# Altium schematic symbol library buffer_digital_isolator.SchLib: 34 symbols
Pins are listed as number, name and electrical type; pins without a type are passive.

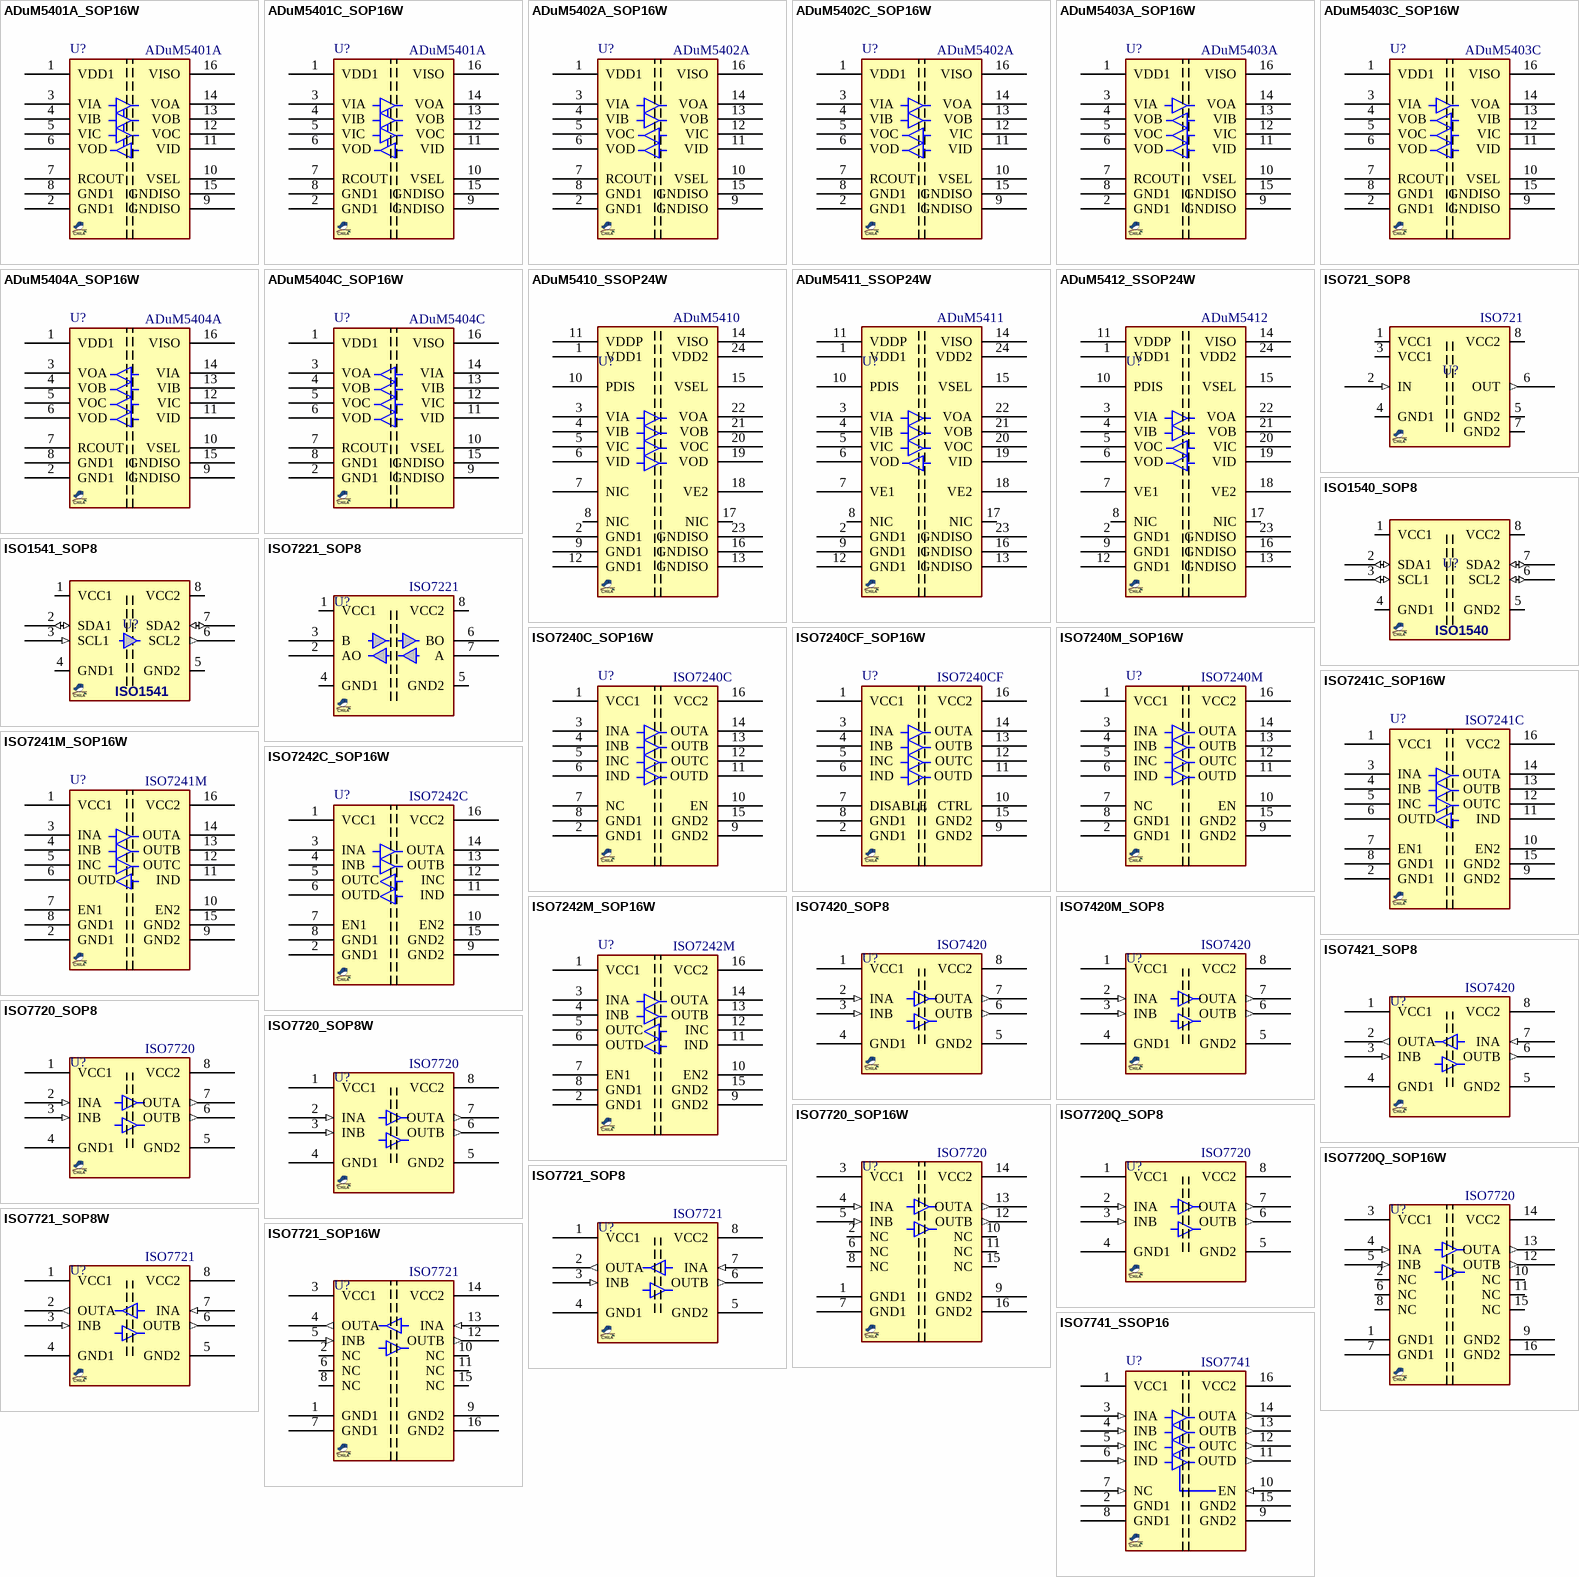
[diagram p0: symbols ADuM5401A_SOP16W to ISO7741_SSOP16]

## ADuM5401A_SOP16W
designator U?, comment ADuM5401A
Isolator, Quad, Integrated DC2DC 500mW; MANF: Analog Device; MANF_P#: ADuM5401ARWZ; PARAM2: 3~5.5Vcc, 500mW, 40ns PWDist; PARAM: 1Mbps, 100ns Tpd, -40~105°C; PRICE: 12$; VALUE: ADuM5401A
footprint SO_16_W (SOP, SOIC, 7.5mm width, 1.27mm pitch,)
pins: 1 VDD1 (power), 2 GND1, 3 VIA, 4 VIB, 5 VIC, 6 VOD, 7 RCOUT, 8 GND1, 9 GNDISO, 10 VSEL, 11 VID, 12 VOC, 13 VOB, 14 VOA, 15 GNDISO, 16 VISO

## ADuM5401C_SOP16W
designator U?, comment ADuM5401A
Isolator, Quad, Integrated DC2DC 500mW; MANF: Analog Device; MANF_P#: ADuM5401CRWZ; PARAM2: 3~5.5Vcc, 500mW, 6ns PWDist; PARAM: 25Mbps, 60ns Tpd, -40~105°C; PRICE: 12$; VALUE: ADuM5401A
footprint SO_16_W (SOP, SOIC, 7.5mm width, 1.27mm pitch,)
pins: 1 VDD1 (power), 2 GND1, 3 VIA, 4 VIB, 5 VIC, 6 VOD, 7 RCOUT, 8 GND1, 9 GNDISO, 10 VSEL, 11 VID, 12 VOC, 13 VOB, 14 VOA, 15 GNDISO, 16 VISO

## ADuM5402A_SOP16W
designator U?, comment ADuM5402A
Isolator, Quad, Integrated DC2DC 500mW; MANF: Analog Device; MANF_P#: ADuM5402ARWZ; PARAM2: 3~5.5Vcc, 500mW, 40ns PWDist; PARAM: 1Mbps, 100ns Tpd, -40~105°C; PRICE: 12$; VALUE: ADuM5402A
footprint SO_16_W (SOP, SOIC, 7.5mm width, 1.27mm pitch,)
pins: 1 VDD1 (power), 2 GND1, 3 VIA, 4 VIB, 5 VOC, 6 VOD, 7 RCOUT, 8 GND1, 9 GNDISO, 10 VSEL, 11 VID, 12 VIC, 13 VOB, 14 VOA, 15 GNDISO, 16 VISO

## ADuM5402C_SOP16W
designator U?, comment ADuM5402A
Isolator, Quad, Integrated DC2DC 500mW; MANF: Analog Device; MANF_P#: ADuM5402CRWZ; PARAM2: 3~5.5Vcc, 500mW, 6ns PWDist; PARAM: 25Mbps, 60ns Tpd, -40~105°C; PRICE: 12$; VALUE: ADuM5402A
footprint SO_16_W (SOP, SOIC, 7.5mm width, 1.27mm pitch,)
pins: 1 VDD1 (power), 2 GND1, 3 VIA, 4 VIB, 5 VOC, 6 VOD, 7 RCOUT, 8 GND1, 9 GNDISO, 10 VSEL, 11 VID, 12 VIC, 13 VOB, 14 VOA, 15 GNDISO, 16 VISO

## ADuM5403A_SOP16W
designator U?, comment ADuM5403A
Isolator, Quad, Integrated DC2DC 500mW; MANF: Analog Device; MANF_P#: ADuM5403ARWZ; PARAM2: 3~5.5Vcc, 500mW, 40ns PWDist; PARAM: 1Mbps, 100ns Tpd, -40~105°C; PRICE: 12$; VALUE: ADuM5403A
footprint SO_16_W (SOP, SOIC, 7.5mm width, 1.27mm pitch,)
pins: 1 VDD1 (power), 2 GND1, 3 VIA, 4 VOB, 5 VOC, 6 VOD, 7 RCOUT, 8 GND1, 9 GNDISO, 10 VSEL, 11 VID, 12 VIC, 13 VIB, 14 VOA, 15 GNDISO, 16 VISO

## ADuM5403C_SOP16W
designator U?, comment ADuM5403C
Isolator, Quad, Integrated DC2DC 500mW; MANF: Analog Device; MANF_P#: ADuM5403CRWZ; PARAM2: 3~5.5Vcc, 500mW, 6ns PWDist; PARAM: 25Mbps, 60ns Tpd, -40~105°C; PRICE: 12$; VALUE: ADuM5403C
footprint SO_16_W (SOP, SOIC, 7.5mm width, 1.27mm pitch,)
pins: 1 VDD1 (power), 2 GND1, 3 VIA, 4 VOB, 5 VOC, 6 VOD, 7 RCOUT, 8 GND1, 9 GNDISO, 10 VSEL, 11 VID, 12 VIC, 13 VIB, 14 VOA, 15 GNDISO, 16 VISO

## ADuM5404A_SOP16W
designator U?, comment ADuM5404A
Isolator, Quad, Integrated DC2DC 500mW; MANF: Analog Device; MANF_P#: ADuM5404ARWZ; PARAM2: 3~5.5Vcc, 500mW, 40ns PWDist; PARAM: 1Mbps, 100ns Tpd, -40~105°C; PRICE: 12$; VALUE: ADuM5404A
footprint SO_16_W (SOP, SOIC, 7.5mm width, 1.27mm pitch,)
pins: 1 VDD1 (power), 2 GND1, 3 VOA, 4 VOB, 5 VOC, 6 VOD, 7 RCOUT, 8 GND1, 9 GNDISO, 10 VSEL, 11 VID, 12 VIC, 13 VIB, 14 VIA, 15 GNDISO, 16 VISO

## ADuM5404C_SOP16W
designator U?, comment ADuM5404C
Isolator, Quad, Integrated DC2DC 500mW; MANF: Analog Device; MANF_P#: ADuM5404CRWZ; PARAM2: 3~5.5Vcc, 500mW, 6ns PWDist; PARAM: 25Mbps, 60ns Tpd, -40~105°C; PRICE: 12$; VALUE: ADuM5404C
footprint SO_16_W (SOP, SOIC, 7.5mm width, 1.27mm pitch,)
pins: 1 VDD1 (power), 2 GND1, 3 VOA, 4 VOB, 5 VOC, 6 VOD, 7 RCOUT, 8 GND1, 9 GNDISO, 10 VSEL, 11 VID, 12 VIC, 13 VIB, 14 VIA, 15 GNDISO, 16 VISO

## ADuM5410_SSOP24W
designator U?, comment ADuM5410
Isolator, Quad, Integrated DC2DC 100mW; MANF: Analog Device; MANF_P#: ADuM5410BRSZ; PARAM2: 3~5.5Vcc, 100mW, 3ns PWDist; PARAM: 150Mbps, 13ns Tpd, -40~105°C; PRICE: 7$; VALUE: ADuM5410
footprint SOG65_24_W (DB, SSOP24, TSSOP24, 0.65mm pitch, 5.3mm Width, SOT340-1, SOT355-1, MO-150AG, MO-153AD(JEDEC),)
pins: 1 VDD1, 2 GND1, 3 VIA, 4 VIB, 5 VIC, 6 VID, 7 NIC, 8 NIC, 9 GND1, 10 PDIS, 11 VDDP, 12 GND1, 13 GNDISO, 14 VISO, 15 VSEL, 16 GNDISO, 17 NIC, 18 VE2, 19 VOD, 20 VOC, 21 VOB, 22 VOA, 23 GNDISO, 24 VDD2

## ADuM5411_SSOP24W
designator U?, comment ADuM5411
Isolator, Quad, Integrated DC2DC 100mW; MANF: Analog Device; MANF_P#: ADuM5411BRSZ; PARAM2: 3~5.5Vcc, 100mW, 3ns PWDist; PARAM: 150Mbps, 13ns Tpd, -40~105°C; PRICE: 7$; VALUE: ADuM5411
footprint SOG65_24_W (DB, SSOP24, TSSOP24, 0.65mm pitch, 5.3mm Width, SOT340-1, SOT355-1, MO-150AG, MO-153AD(JEDEC),)
pins: 1 VDD1, 2 GND1, 3 VIA, 4 VIB, 5 VIC, 6 VOD, 7 VE1, 8 NIC, 9 GND1, 10 PDIS, 11 VDDP, 12 GND1, 13 GNDISO, 14 VISO, 15 VSEL, 16 GNDISO, 17 NIC, 18 VE2, 19 VID, 20 VOC, 21 VOB, 22 VOA, 23 GNDISO, 24 VDD2

## ADuM5412_SSOP24W
designator U?, comment ADuM5412
Isolator, Quad, Integrated DC2DC 100mW; MANF: Analog Device; MANF_P#: ADuM5412BRSZ; PARAM2: 3~5.5Vcc, 100mW, 3ns PWDist; PARAM: 150Mbps, 13ns Tpd, -40~105°C; PRICE: 7$; VALUE: ADuM5412
footprint SOG65_24_W (DB, SSOP24, TSSOP24, 0.65mm pitch, 5.3mm Width, SOT340-1, SOT355-1, MO-150AG, MO-153AD(JEDEC),)
pins: 1 VDD1, 2 GND1, 3 VIA, 4 VIB, 5 VOC, 6 VOD, 7 VE1, 8 NIC, 9 GND1, 10 PDIS, 11 VDDP, 12 GND1, 13 GNDISO, 14 VISO, 15 VSEL, 16 GNDISO, 17 NIC, 18 VE2, 19 VID, 20 VIC, 21 VOB, 22 VOA, 23 GNDISO, 24 VDD2

## ISO721_SOP8
designator U?, comment ISO721
Isolator, highspeed; MANF: Texas Instruments; MANF_P#: ISO721D, ISO721ID; VALUE: ISO721
footprint SO_8 (SOP-8, 5x3.9mm body 1.27mm pitch, SOT96-1, M08A, S8, SOIC8, VO8, MS-012AA(JEDEC), R-8, 8S2, VOG8)
pins: 1 VCC1 (power), 2 IN (in), 3 VCC1 (power), 4 GND1 (power), 5 GND2 (power), 6 OUT (out), 7 GND2 (power), 8 VCC2 (power)

## ISO1540_SOP8
designator U?, comment ISO1540  (value not drawn)
Isolator, I2C, Bidirectional,; MANF: Texas Instruments; MANF_P#: ISO1540D, ISO1540QDRQ1, ISO1540QDQ1; PRICE: 5$; VALUE: ISO1540
footprint SO_8 (SOP-8, 5x3.9mm body 1.27mm pitch, SOT96-1, M08A, S8, SOIC8, VO8, MS-012AA(JEDEC), R-8, 8S2, VOG8)
pins: 1 VCC1 (power), 2 SDA1 (io), 3 SCL1 (io), 4 GND1 (power), 5 GND2 (power), 6 SCL2 (io), 7 SDA2 (io), 8 VCC2 (power)

## ISO1541_SOP8
designator U?, comment ISO1541  (value not drawn)
Isolator, I2C, SDA Bidirectional, SCL unidirect; MANF: Texas Instruments; MANF_P#: ISO1541D, ISO1541QDRQ1, ISO1541QDQ1; PRICE: 5$; VALUE: ISO1541
footprint SO_8 (SOP-8, 5x3.9mm body 1.27mm pitch, SOT96-1, M08A, S8, SOIC8, VO8, MS-012AA(JEDEC), R-8, 8S2, VOG8)
pins: 1 VCC1 (power), 2 SDA1 (io), 3 SCL1 (in), 4 GND1 (power), 5 GND2 (power), 6 SCL2 (out), 7 SDA2 (io), 8 VCC2 (power)

## ISO7221_SOP8
designator U?, comment ISO7221
Isolator, Dual, 2.5kV, 1Mbps; MANF: Texas Instruments; MANF_P#: ISO7221AD, ISO7221BD, ISO7221MD, ISO7221AQD; VALUE: ISO7221
footprint SO_8 (SOP-8, 5x3.9mm body 1.27mm pitch, SOT96-1, M08A, S8, SOIC8, VO8, MS-012AA(JEDEC), R-8, 8S2, VOG8)
pins: 1 VCC1, 2 AO, 3 B, 4 GND1, 5 GND2, 6 BO, 7 A, 8 VCC2

## ISO7240C_SOP16W
designator U?, comment ISO7240C
Isolator, Quad,; MANF: Texas Instrument; MANF_P#: ISO7240CDW; PARAM2: 3.3/5Vcc, 2ns PWDist; PARAM: 25Mbps, 1ns Tpd, -40~105°C; PRICE: 6$; VALUE: ISO7240C
footprint SO_16_W (SOP, SOIC, 7.5mm width, 1.27mm pitch,)
pins: 1 VCC1 (power), 2 GND1 (power), 3 INA (power), 4 INB (power), 5 INC (power), 6 IND (power), 7 NC (power), 8 GND1 (power), 9 GND2 (power), 10 EN (power), 11 OUTD (power), 12 OUTC (power), 13 OUTB (power), 14 OUTA (power), 15 GND2 (power), 16 VCC2 (power)

## ISO7240CF_SOP16W
designator U?, comment ISO7240CF
Isolator, Quad,; MANF: Texas Instrument; MANF_P#: ISO7240CFDW; PARAM2: 3.3/5Vcc, 2ns PWDist; PARAM: 25Mbps, 1ns Tpd, -40~105°C; PRICE: 6$; VALUE: ISO7240CF
footprint SO_16_W (SOP, SOIC, 7.5mm width, 1.27mm pitch,)
pins: 1 VCC1 (power), 2 GND1 (power), 3 INA (power), 4 INB (power), 5 INC (power), 6 IND (power), 7 DISABLE (power), 8 GND1 (power), 9 GND2 (power), 10 CTRL (power), 11 OUTD (power), 12 OUTC (power), 13 OUTB (power), 14 OUTA (power), 15 GND2 (power), 16 VCC2 (power)

## ISO7240M_SOP16W
designator U?, comment ISO7240M
Isolator, Quad,; MANF: Texas Instrument; MANF_P#: ISO7240MDW; PARAM2: 3.3/5Vcc, 2ns PWDist; PARAM: 150Mbps, 1ns Tpd, -40~105°C; PRICE: 6$; VALUE: ISO7240M
footprint SO_16_W (SOP, SOIC, 7.5mm width, 1.27mm pitch,)
pins: 1 VCC1 (power), 2 GND1 (power), 3 INA (power), 4 INB (power), 5 INC (power), 6 IND (power), 7 NC (power), 8 GND1 (power), 9 GND2 (power), 10 EN (power), 11 OUTD (power), 12 OUTC (power), 13 OUTB (power), 14 OUTA (power), 15 GND2 (power), 16 VCC2 (power)

## ISO7241C_SOP16W
designator U?, comment ISO7241C
Isolator, Quad,; MANF: Texas Instrument; MANF_P#: ISO7241CDW; PARAM2: 3.3/5Vcc, 2ns PWDist; PARAM: 25Mbps, 1ns Tpd, -40~105°C; PRICE: 6$; VALUE: ISO7241C
footprint SO_16_W (SOP, SOIC, 7.5mm width, 1.27mm pitch,)
pins: 1 VCC1 (power), 2 GND1 (power), 3 INA (power), 4 INB (power), 5 INC (power), 6 OUTD (power), 7 EN1 (power), 8 GND1 (power), 9 GND2 (power), 10 EN2 (power), 11 IND (power), 12 OUTC (power), 13 OUTB (power), 14 OUTA (power), 15 GND2 (power), 16 VCC2 (power)

## ISO7241M_SOP16W
designator U?, comment ISO7241M
Isolator, Quad,; MANF: Texas Instrument; MANF_P#: ISO7241MDW; PARAM2: 3.3/5Vcc, 2ns PWDist; PARAM: 150Mbps, 1ns Tpd, -40~105°C; PRICE: 6$; VALUE: ISO7241M
footprint SO_16_W (SOP, SOIC, 7.5mm width, 1.27mm pitch,)
pins: 1 VCC1 (power), 2 GND1 (power), 3 INA (power), 4 INB (power), 5 INC (power), 6 OUTD (power), 7 EN1 (power), 8 GND1 (power), 9 GND2 (power), 10 EN2 (power), 11 IND (power), 12 OUTC (power), 13 OUTB (power), 14 OUTA (power), 15 GND2 (power), 16 VCC2 (power)

## ISO7242C_SOP16W
designator U?, comment ISO7242C
Isolator, Quad,; MANF: Texas Instrument; MANF_P#: ISO7242CDW; PARAM2: 3.3/5Vcc, 2ns PWDist; PARAM: 25Mbps, 1ns Tpd, -40~105°C; PRICE: 6$; VALUE: ISO7242C
footprint SO_16_W (SOP, SOIC, 7.5mm width, 1.27mm pitch,)
pins: 1 VCC1 (power), 2 GND1 (power), 3 INA (power), 4 INB (power), 5 OUTC (power), 6 OUTD (power), 7 EN1 (power), 8 GND1 (power), 9 GND2 (power), 10 EN2 (power), 11 IND (power), 12 INC (power), 13 OUTB (power), 14 OUTA (power), 15 GND2 (power), 16 VCC2 (power)

## ISO7242M_SOP16W
designator U?, comment ISO7242M
Isolator, Quad,; MANF: Texas Instrument; MANF_P#: ISO7242MDW; PARAM2: 3.3/5Vcc, 2ns PWDist; PARAM: 150Mbps, 1ns Tpd, -40~105°C; PRICE: 6$; VALUE: ISO7242M
footprint SO_16_W (SOP, SOIC, 7.5mm width, 1.27mm pitch,)
pins: 1 VCC1 (power), 2 GND1 (power), 3 INA (power), 4 INB (power), 5 OUTC (power), 6 OUTD (power), 7 EN1 (power), 8 GND1 (power), 9 GND2 (power), 10 EN2 (power), 11 IND (power), 12 INC (power), 13 OUTB (power), 14 OUTA (power), 15 GND2 (power), 16 VCC2 (power)

## ISO7420_SOP8
designator U?, comment ISO7420
Isolators, Dual, Low-Power, 1Mbps; MANF: Texas Instruments; MANF_P#: ISO7420D; PARAM2: 3.3/5VCC, 9ns Tpd, 300ps Skew; PARAM: 2.5KVrms Isolation, -40~105°C; PRICE: 3$; VALUE: ISO7420
footprint SO_8
pins: 1 VCC1 (power), 2 INA (in), 3 INB (in), 4 GND1 (power), 5 GND2 (power), 6 OUTB (out), 7 OUTA (out), 8 VCC2 (power)

## ISO7420M_SOP8
designator U?, comment ISO7420
Isolators, Dual, Low-Power, 1Mbps; MANF: Texas Instruments; MANF_P#: ISO7420D; PARAM2: 3.3/5VCC, 9ns Tpd, 300ps Skew; PARAM: 2.5KVrms Isolation, -40~125°C; PRICE: 3$; VALUE: ISO7420
footprint SO_8
pins: 1 VCC1 (power), 2 INA (in), 3 INB (in), 4 GND1 (power), 5 GND2 (power), 6 OUTB (out), 7 OUTA (out), 8 VCC2 (power)

## ISO7421_SOP8
designator U?, comment ISO7420
Isolators, Dual, Low-Power, 1Mbps; MANF: Texas Instruments; MANF_P#: ISO7421D; PARAM2: 3.3/5VCC, 9ns Tpd, 300ps Skew; PARAM: 2.5KVrms Isolation, -40~105°C; PRICE: 3$; VALUE: ISO7420
footprint SO_8
pins: 1 VCC1 (power), 2 OUTA (out), 3 INB (in), 4 GND1 (power), 5 GND2 (power), 6 OUTB (out), 7 INA (in), 8 VCC2 (power)

## ISO7720_SOP8
designator U?, comment ISO7720
Isolators, Dual, Low-Power, 100Mbps, 5KVrms; MANF: Texas Instruments; MANF_P#: ISO7720D; PARAM2: 2.25~5.5VCC, 11ns Tpd, 4ns Skew; PARAM: 5KVrms Isolation, -55~125°C; PRICE: 2$; VALUE: ISO7720
footprint SO_8
pins: 1 VCC1 (power), 2 INA (in), 3 INB (in), 4 GND1 (power), 5 GND2 (power), 6 OUTB (out), 7 OUTA (out), 8 VCC2 (power)

## ISO7720_SOP8W
designator U?, comment ISO7720
Isolators, Dual, Low-Power, 100Mbps, 5KVrms; MANF: Texas Instruments; MANF_P#: ISO7720DWV; PARAM2: 2.25~5.5VCC, 11ns Tpd, 4ns Skew; PARAM: 5KVrms Isolation, -55~125°C; PRICE: 2$; VALUE: ISO7720
footprint SO_8_W (SOIC Width, 5x5.3mm body 0.5mm pitch, 5.28mm SOIJ)
pins: 1 VCC1 (power), 2 INA (in), 3 INB (in), 4 GND1 (power), 5 GND2 (power), 6 OUTB (out), 7 OUTA (out), 8 VCC2 (power)

## ISO7720_SOP16W
designator U?, comment ISO7720
Isolators, Dual, Low-Power, 100Mbps, 5KVrms; MANF: Texas Instruments; MANF_P#: ISO7720DW; PARAM2: 2.25~5.5VCC, 11ns Tpd, 4ns Skew; PARAM: 5KVrms Isolation, -55~125°C; PRICE: 2$; VALUE: ISO7720
footprint SO_16_W (SOP, SOIC, 7.5mm width, 1.27mm pitch,)
pins: 1 GND1, 2 NC, 3 VCC1, 4 INA (in), 5 INB (in), 6 NC, 7 GND1, 8 NC, 9 GND2, 10 NC, 11 NC, 12 OUTB (out), 13 OUTA (out), 14 VCC2, 15 NC, 16 GND2

## ISO7720Q_SOP8
designator U?, comment ISO7720
Isolators, Dual, Low-Power, 100Mbps, 5KVrms; MANF: Texas Instruments; MANF_P#: ISO7720QD; PARAM2: 2.25~5.5VCC, 11ns Tpd, 4ns Skew; PARAM: 5KVrms Isolation, -55~125°C; PRICE: 2$; VALUE: ISO7720
footprint SO_8
pins: 1 VCC1 (power), 2 INA (in), 3 INB (in), 4 GND1 (power), 5 GND2 (power), 6 OUTB (out), 7 OUTA (out), 8 VCC2 (power)

## ISO7720Q_SOP16W
designator U?, comment ISO7720
Isolators, Dual, Low-Power, 100Mbps, 5KVrms; MANF: Texas Instruments; MANF_P#: ISO7720QDW; PARAM2: 2.25~5.5VCC, 11ns Tpd, 4ns Skew; PARAM: 5KVrms Isolation, -55~125°C; PRICE: 2$; VALUE: ISO7720
footprint SO_16_W (SOP, SOIC, 7.5mm width, 1.27mm pitch,)
pins: 1 GND1, 2 NC, 3 VCC1, 4 INA (in), 5 INB (in), 6 NC, 7 GND1, 8 NC, 9 GND2, 10 NC, 11 NC, 12 OUTB (out), 13 OUTA (out), 14 VCC2, 15 NC, 16 GND2

## ISO7721_SOP8
designator U?, comment ISO7721
Isolators, Dual, Low-Power, 100Mbps, 5KVrms; MANF: Texas Instruments; MANF_P#: ISO7721D; PARAM2: 2.25~5.5VCC, 11ns Tpd, 4ns Skew; PARAM: 5KVrms Isolation, -55~125°C; PRICE: 2$; VALUE: ISO7721
footprint SO_8
pins: 1 VCC1 (power), 2 OUTA (out), 3 INB (in), 4 GND1 (power), 5 GND2 (power), 6 OUTB (out), 7 INA (in), 8 VCC2 (power)

## ISO7721_SOP8W
designator U?, comment ISO7721
Isolators, Dual, Low-Power, 100Mbps, 5KVrms; MANF: Texas Instruments; MANF_P#: ISO7721DWV; PARAM2: 2.25~5.5VCC, 11ns Tpd, 4ns Skew; PARAM: 5KVrms Isolation, -55~125°C; PRICE: 2$; VALUE: ISO7721
footprint SO_8_W (SOIC Width, 5x5.3mm body 0.5mm pitch, 5.28mm SOIJ)
pins: 1 VCC1 (power), 2 OUTA (out), 3 INB (in), 4 GND1 (power), 5 GND2 (power), 6 OUTB (out), 7 INA (in), 8 VCC2 (power)

## ISO7721_SOP16W
designator U?, comment ISO7721
Isolators, Dual, Low-Power, 100Mbps, 5KVrms; MANF: Texas Instruments; MANF_P#: ISO7721DW; PARAM2: 2.25~5.5VCC, 11ns Tpd, 4ns Skew; PARAM: 5KVrms Isolation, -55~125°C; PRICE: 2$; VALUE: ISO7721
footprint SO_16_W (SOP, SOIC, 7.5mm width, 1.27mm pitch,)
pins: 1 GND1, 2 NC, 3 VCC1, 4 OUTA (out), 5 INB (in), 6 NC, 7 GND1, 8 NC, 9 GND2, 10 NC, 11 NC, 12 OUTB (out), 13 INA (in), 14 VCC2, 15 NC, 16 GND2

## ISO7741_SSOP16
designator U?, comment ISO7741
Isolator, Quad, Low-Power; MANF: Texas Instruments; MANF_P#: ISO7741DBQ; VALUE: ISO7741
footprint SOG63_16 (SOP DBQ, 16-Leads, Body 4.90x3.90mm, Pitch 0.635mm)
pins: 1 VCC1 (power), 2 GND1 (power), 3 INA (in), 4 INB (in), 5 INC (in), 6 IND (in), 7 NC (in), 8 GND1 (power), 9 GND2 (power), 10 EN (in), 11 OUTD (out), 12 OUTC (out), 13 OUTB (out), 14 OUTA (out), 15 GND2 (power), 16 VCC2 (power)